# EAGLE library part T6713 (library Amphenol)
2x6 header 1.27mm pitch This is a library for Amphenol FCI 2x6 header with 1.27mm pitch used on COZIR-LP CO2 sensor. The sensor actually uses 1x6 1.27mm header, so the second row is left unconnected. MPN: 20021311-00012T4LF Datasheet: http://portal.fciconnect.com/Comergent//fci/drawing/20021311.pdf Designed by Akram Ali https://github.com/AKstudios
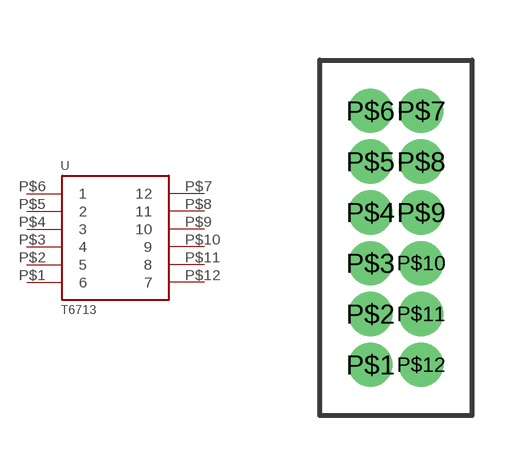
[diagram p1: symbol with the pads of RECEPTACLE_1.27MM_2X6; footprint RECEPTACLE_1.27MM_2X6]

Designator prefix -

## T6713  [RECEPTACLE_1.27MM_2X6]
P$1  6
P$2  5
P$3  4
P$4  3
P$5  2
P$6  1
P$7  12
P$8  11
P$9  10
P$10  9
P$11  8
P$12  7

## Footprint RECEPTACLE_1.27MM_2X6 (pad centres in mm)
drill 0.6 pad 1.016: P$1 1.27,1.27; P$2 1.27,2.54; P$3 1.27,3.81; P$4 1.27,5.08; P$5 1.27,6.35; P$6 1.27,7.62; P$7 2.54,7.62; P$8 2.54,6.35; P$9 2.54,5.08; P$10 2.54,3.81; P$11 2.54,2.54; P$12 2.54,1.27